# EAGLE library part LTC4425 (library LTC4425 Supercap Charger)
The ISL85003 and ISL85003A are synchronous buck regulators with integrated high-side and low-side FET’s. The regulator can operate from an input voltage range of 4.5V to 18V while delivering a very efficient continuous 3A current. This is all delivered in a very compact 3x4mm DFN package. More about it you can find at ISL85003 <http://www.intersil.com/en/products/power-management/switching-regulators/integrated-fet-regulators/ISL85003.html> The library has been designed by Richard Magdycz <https://www.facebook.com/groups/eaglecadsoftUK>
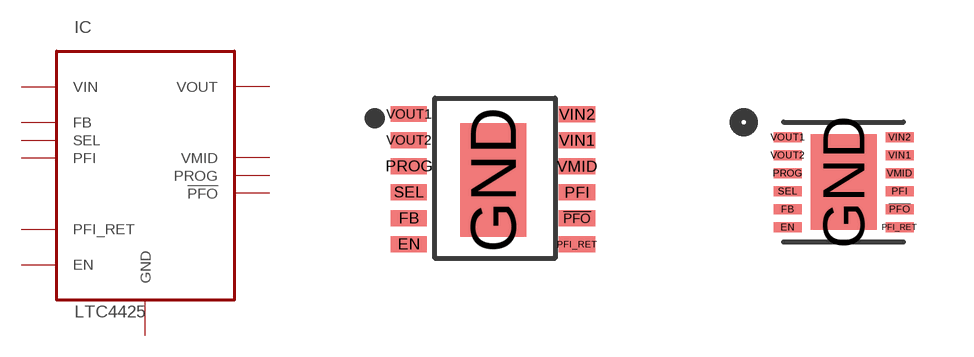
[diagram p0: symbol with the pads of MSOP-12; footprints MSOP-12, DFN-12]

Designator prefix IC

## LTC4425MSOP-12  [MSOP-12]
!PFO!  !PFO!  out
EN  EN  in
FB  FB  in
GND  GND  pwr
PFI  PFI  in
PFI_RET  PFI_RET  hiz
PROG  PROG  hiz
SEL  SEL  hiz
VIN1  VIN  pwr
VIN2  VIN  pwr
VMID  VMID  hiz
VOUT1  VOUT  pwr
VOUT2  VOUT  pwr

## LTC4425DFN-12  [DFN-12]
Pads as for MSOP-12

## Footprint MSOP-12 (pad centres in mm)
DFN 12 LEAD DUAL FLAT NO-LEAD PLASTIC PACKAGE
smd 0.9 x 0.4: !PFO! 2.05,-1.01; EN -2.15,-1.65; FB -2.15,-1; PFI 2.05,-0.36; PFI_RET 2.05,-1.66; PROG -2.15,0.3; SEL -2.15,-0.35; VIN1 2.05,0.94; VIN2 2.05,1.59; VMID 2.05,0.29; VOUT1 -2.15,1.6; VOUT2 -2.15,0.95
smd 1.65 x 2.84: GND -0.05,-0.05

## Footprint DFN-12 (pad centres in mm)
smd 0.7 x 0.25: !PFO! 1.4,-0.675; EN -1.4,-1.125; FB -1.4,-0.675; PFI 1.4,-0.225; PFI_RET 1.4,-1.125; PROG -1.4,0.225; SEL -1.4,-0.225; VIN1 1.4,0.675; VIN2 1.4,1.125; VMID 1.4,0.225; VOUT1 -1.4,1.125; VOUT2 -1.4,0.675
smd 1.65 x 2.38: GND 0,0